# EAGLE library part W5500 (library ethernet_poe)
Chip to control 10/100 Ethernet and output data over SPI https://www.digikey.com/product-detail/en/wiznet/W5500/1278-1021-ND/4425702
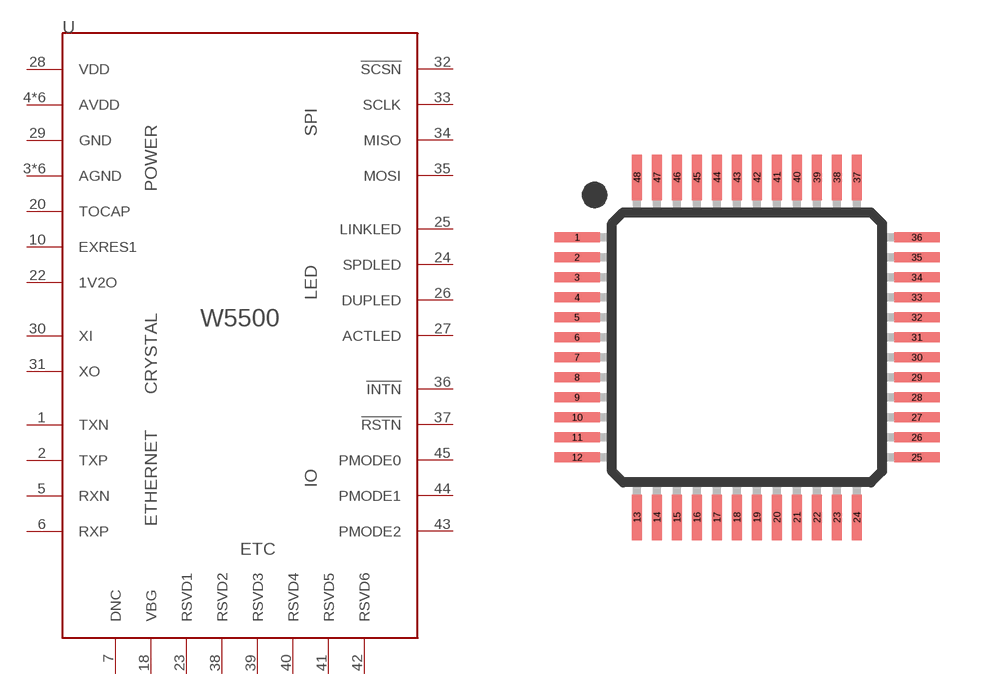
[diagram p0: symbol with the pads of 48-LQFP; footprint 48-LQFP]

Designator prefix U

## W5500 (DKPN: 1278-1021-ND)  [48-LQFP]
1  TXN  pas
2  TXP  pas
3  AGND  pas
4  AVDD  pas
5  RXN  pas
6  RXP  pas
7  DNC  pas
8  AVDD  pas
9  AGND  pas
10  EXRES1  pas
11  AVDD  pas
14  AGND  pas
15  AVDD  pas
16  AGND  pas
17  AVDD  pas
18  VBG  pas
19  AGND  pas
20  TOCAP  pas
21  AVDD  pas
22  1V2O  pas
23  RSVD1  pas
24  SPDLED  pas
25  LINKLED  pas
26  DUPLED  pas
27  ACTLED  pas
28  VDD  pas
29  GND  pas
30  XI  pas
31  XO  pas
32  !SCSN  pas
33  SCLK  pas
34  MISO  pas
35  MOSI  pas
36  !INTN  pas
37  !RSTN  pas
38  RSVD2  pas
39  RSVD3  pas
40  RSVD4  pas
41  RSVD5  pas
42  RSVD6  pas
43  PMODE2  pas
44  PMODE1  pas
45  PMODE0  pas
48  AGND  pas

## Footprint 48-LQFP (pad centres in mm)
48-LQFP Specifications: Pin count: 48 Example device(s): VS1000 https://www.digikey.com/product-detail/en/wiznet/W5500/1278-1021-ND/4425702
smd 1.143 x 0.254: 1 -4.25,2.75; 2 -4.25,2.25; 3 -4.25,1.75; 4 -4.25,1.25; 5 -4.25,0.75; 6 -4.25,0.25; 7 -4.25,-0.25; 8 -4.25,-0.75; 9 -4.25,-1.25; 10 -4.25,-1.75; 11 -4.25,-2.25; 12 -4.25,-2.75; 25 4.25,-2.75; 26 4.25,-2.25; 27 4.25,-1.75; 28 4.25,-1.25; 29 4.25,-0.75; 30 4.25,-0.25; 31 4.25,0.25; 32 4.25,0.75; 33 4.25,1.25; 34 4.25,1.75; 35 4.25,2.25; 36 4.25,2.75
smd 0.254 x 1.143: 13 -2.75,-4.25; 14 -2.25,-4.25; 15 -1.75,-4.25; 16 -1.25,-4.25; 17 -0.75,-4.25; 18 -0.25,-4.25; 19 0.25,-4.25; 20 0.75,-4.25; 21 1.25,-4.25; 22 1.75,-4.25; 23 2.25,-4.25; 24 2.75,-4.25; 37 2.75,4.25; 38 2.25,4.25; 39 1.75,4.25; 40 1.25,4.25; 41 0.75,4.25; 42 0.25,4.25; 43 -0.25,4.25; 44 -0.75,4.25; 45 -1.25,4.25; 46 -1.75,4.25; 47 -2.25,4.25; 48 -2.75,4.25